# Altium schematic symbol library СD4011_K561LA7.SchLib: 1 symbol
Pins are listed as number, name and electrical type; pins without a type are passive.

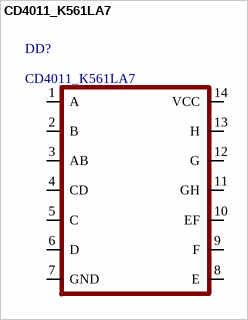
[diagram p0: symbol СD4011_K561LA7]

## СD4011_K561LA7
designator DD?
footprint DIP14
pins: 1 A, 2 B, 3 AB, 4 CD, 5 C, 6 D, 7 GND, 8 E, 9 F, 10 EF, 11 GH, 12 G, 13 H, 14 VCC